# Altium footprint library CAP_SMD.PcbLib: 8 footprints
Each footprint in its own frame and in the unit in brackets; x right, y up, seen from the top. Pads: shape width x height; smd on the part's side, far side on the other; paste and mask are expansions set on the pad; w line width, h text height; cw(c..) or ccw(c..) is an arc to the next point about the centre after c.
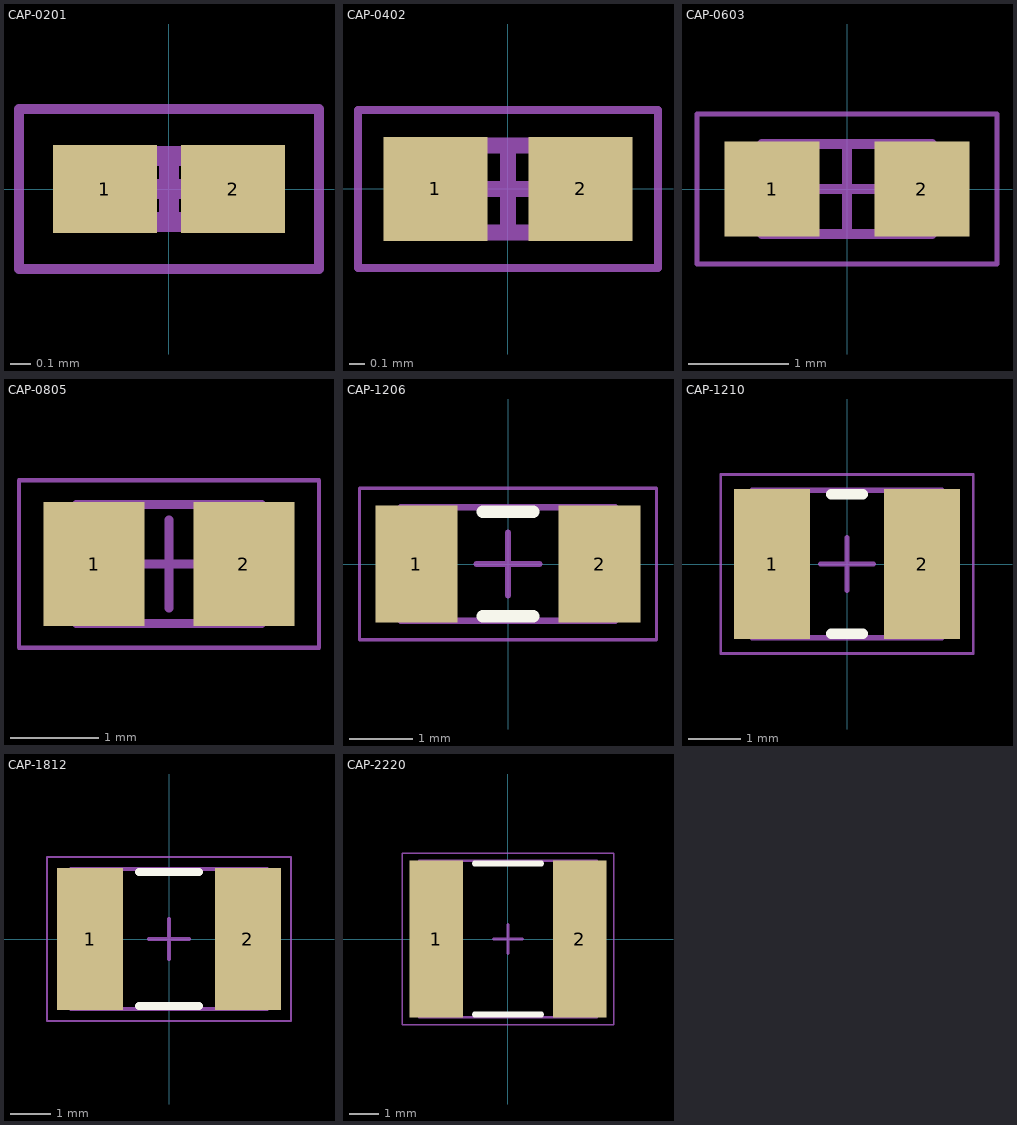
[diagram p0: the footprints below, top view; thin cyan lines are the x and y axes]

## CAP-0201 [mm]
height 0.33
pads (2):
  rect 0.52x0.44 smd: 1(-0.32,0) 2(0.32,0)
Mechanical 13:
  lines w0.1: -0.315,-0.165 -0.315,0.165 0.315,0.165 0.315,-0.165 -0.315,-0.165
Mechanical 15:
  lines w0.05: -0.75,-0.4 -0.75,0.4 0.75,0.4 0.75,-0.4 -0.75,-0.4
  lines w0.1: -0.165,0 0.165,0 ; 0,-0.165 0,0.165
3D body "CAP-0201.step": height 0.33, standoff 0, extent -0.315,-0.165 0.315,0.165

## CAP-0402 [mm]
height 0.55
pads (2):
  rect 0.66x0.66 smd: 1(-0.46,0) 2(0.46,0)
Mechanical 13:
  lines w0.1: -0.525,-0.275 0.525,-0.275 0.525,0.275 -0.525,0.275 -0.525,-0.275
Mechanical 15:
  lines w0.05: -0.95,-0.5 0.95,-0.5 0.95,0.5 -0.95,0.5 -0.95,-0.5
  lines w0.1: -0.275,0 0.275,0 ; 0,-0.275 0,0.275
3D body "CAP-0402.step": height 0.55, standoff 0, extent -0.525,-0.275 0.525,0.275

## CAP-0603 [mm]
height 0.9
pads (2):
  rect 0.95x0.95 smd: 1(-0.75,0) 2(0.75,0)
Mechanical 13:
  lines w0.1: -0.85,-0.45 0.85,-0.45 0.85,0.45 -0.85,0.45 -0.85,-0.45
Mechanical 15:
  lines w0.05: -1.5,-0.75 1.5,-0.75 1.5,0.75 -1.5,0.75 -1.5,-0.75
  lines w0.1: -0.45,0 0.45,0 ; 0,-0.45 0,0.45
3D body "CAP-063.step": height 0.9, standoff 0, extent -0.85,-0.45 0.85,0.45

## CAP-0805 [mm]
height 1.35
pads (2):
  rect 1.15x1.4 smd: 1(-3.4,2.1) 2(-1.7,2.1)
Mechanical 13:
  lines w0.1: -3.6,1.425 -3.6,2.775 -1.5,2.775 -1.5,1.425 -3.6,1.425
Mechanical 15:
  lines w0.05: -4.25,1.15 -4.25,3.05 -0.85,3.05 -0.85,1.15 -4.25,1.15
  lines w0.1: -3.05,2.1 -2.05,2.1 ; -2.55,1.6 -2.55,2.6
3D body "CAP-0805.step": height 1.35, standoff 0, extent -3.6,1.425 -1.5,2.775

## CAP-1206 [mm]
height 1.8
pads (2):
  rect 1.3x1.85 smd: 1(-1.45,0) 2(1.45,0)
Top Overlay:
  lines w0.2: -0.4,-0.825 0.4,-0.825 ; -0.4,0.825 0.4,0.825
Mechanical 13:
  lines w0.1: -1.7,-0.9 -1.7,0.9 1.7,0.9 1.7,-0.9 -1.7,-0.9
Mechanical 15:
  lines w0.05: -2.35,-1.2 -2.35,1.2 2.35,1.2 2.35,-1.2 -2.35,-1.2
  lines w0.1: -0.5,0 0.5,0 ; 0,-0.5 0,0.5
3D body "CAP-1206.step": height 1.8, standoff 0, extent -1.7,-0.9 1.7,0.9

## CAP-1210 [mm]
height 2.8
pads (2):
  rect 1.45x2.85 smd: 1(-1.425,0) 2(1.425,0)
Top Overlay:
  lines w0.2: -0.3,-1.325 0.3,-1.325 ; -0.3,1.325 0.3,1.325
Mechanical 13:
  lines w0.1: -1.8,-1.4 1.8,-1.4 1.8,1.4 -1.8,1.4 -1.8,-1.4
Mechanical 15:
  lines w0.05: -2.4,-1.7 2.4,-1.7 2.4,1.7 -2.4,1.7 -2.4,-1.7
  lines w0.1: -0.5,0 0.5,0 ; 0,-0.5 0,0.5
3D body "CAP-1210.step": height 2.8, standoff 0, extent -1.8,-1.4 1.8,1.4

## CAP-1812 [mm]
height 3.5
pads (2):
  rect 1.65x3.55 smd: 1(-1.975,0) 2(1.975,0)
Top Overlay:
  lines w0.2: -0.75,-1.675 0.75,-1.675 ; -0.75,1.675 0.75,1.675
Mechanical 13:
  lines w0.1: -2.45,-1.75 2.45,-1.75 2.45,1.75 -2.45,1.75 -2.45,-1.75
Mechanical 15:
  lines w0.05: -3.05,-2.05 3.05,-2.05 3.05,2.05 -3.05,2.05 -3.05,-2.05
  lines w0.1: -0.5,0 0.5,0 ; 0,-0.5 0,0.5
3D body "CAP-1812.step": height 3.5, standoff 0, extent -2.45,-1.75 2.45,1.75

## CAP-2220 [mm]
height 3.5
pads (2):
  rect 1.85x5.4 smd: 1(-2.475,0) 2(2.475,0)
Top Overlay:
  lines w0.2: -1.15,-2.6 1.15,-2.6 ; -1.15,2.6 1.15,2.6
Mechanical 13:
  lines w0.1: -3.05,-2.7 3.05,-2.7 3.05,2.7 -3.05,2.7 -3.05,-2.7
Mechanical 15:
  lines w0.05: -3.65,-2.95 3.65,-2.95 3.65,2.95 -3.65,2.95 -3.65,-2.95
  lines w0.1: -0.5,0 0.5,0 ; 0,-0.5 0,0.5
3D body "CAP-2220.step": height 3.5, standoff 0, extent -3.05,-2.7 3.05,2.7